# Altium schematic symbol library SmartCard.SchLib: 1 symbol
Pins are listed as number, name and electrical type; pins without a type are passive.

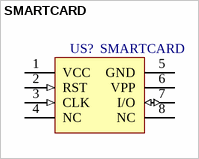
[diagram p0: symbol SMARTCARD]

## SMARTCARD
designator US?
footprint SMARTCARD
pins: 1 VCC (power), 2 RST (in), 3 CLK (in), 4 NC, 5 GND (power), 6 VPP (power), 7 I/O (io), 8 NC